# Altium footprint library USB3.2_Hub_4Port.PcbLib: 34 footprints (part 2 of 3)
Each footprint in its own frame and in the unit in brackets; x right, y up, seen from the top. Pads: shape width x height; smd on the part's side, far side on the other; paste and mask are expansions set on the pad; w line width, h text height; cw(c..) or ccw(c..) is an arc to the next point about the centre after c.
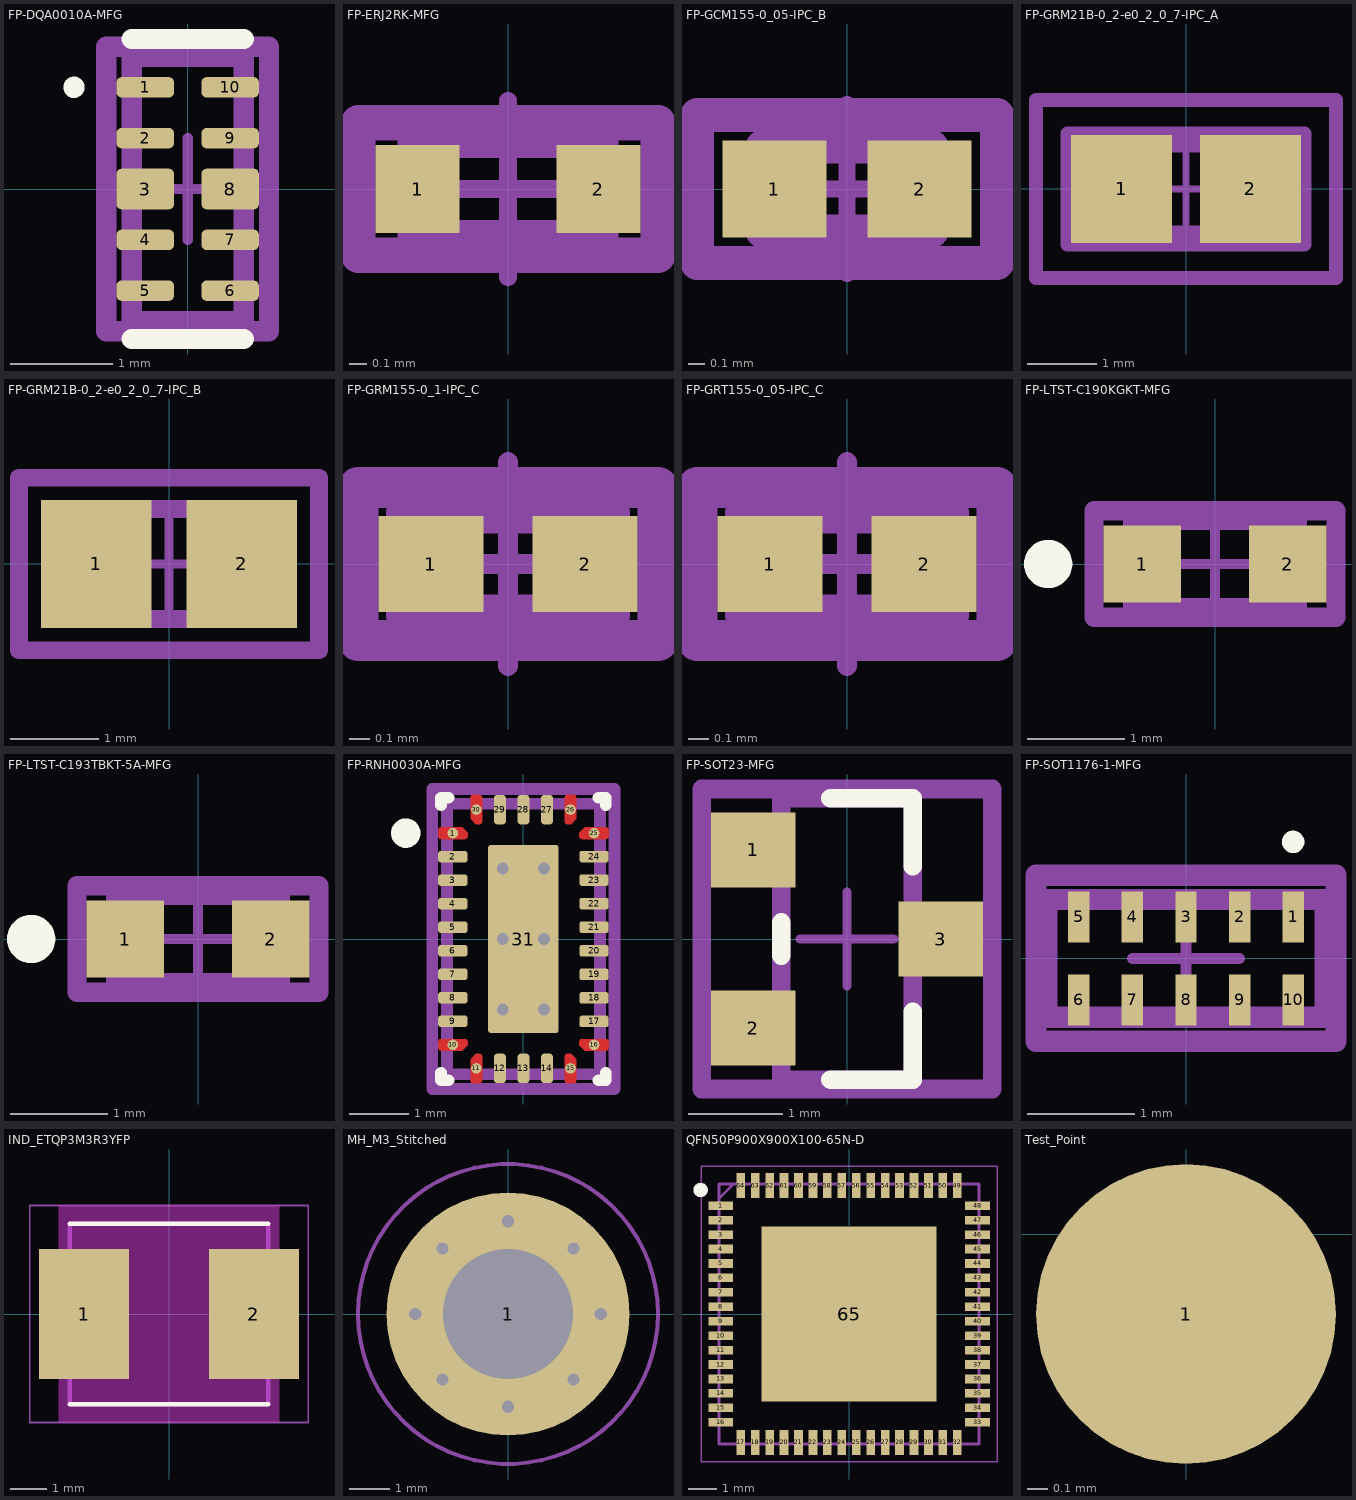
[diagram p1: the footprints below, top view; thin cyan lines are the x and y axes]

## FP-DQA0010A-MFG [mm]
pads (10):
  rrect50% 0.565x0.2 smd paste+0 mask+0: 1(-0.417,1) 2(-0.417,0.5) 4(-0.417,-0.5) 5(-0.417,-1) 6(0.417,-1) 7(0.417,-0.5) 9(0.417,0.5) 10(0.417,1)
  rrect25% 0.565x0.4 smd paste-1000 mask+0: 3(-0.417,0) 8(0.417,0)
Top Overlay:
  circle w0.11: c-1.117,1 r0.05
  lines w0.2: -0.55,-1.475 0.55,-1.475 ; -0.55,1.475 0.55,1.475
Top Paste:
  region: -0.65,-0.18 -0.66,-0.18 -0.678,-0.172 -0.692,-0.158 -0.7,-0.14 -0.7,-0.13 -0.7,0.13 -0.7,0.14 -0.692,0.158 -0.678,0.172 -0.66,0.18 -0.65,0.18 -0.185,0.18 -0.175,0.18 -0.157,0.172 -0.143,0.158 -0.135,0.14 -0.135,0.13 -0.135,-0.13 -0.135,-0.14 -0.143,-0.158 -0.157,-0.172 -0.175,-0.18 -0.185,-0.18
  region: 0.7,0.13 0.7,-0.13 0.7,-0.14 0.692,-0.158 0.678,-0.172 0.66,-0.18 0.65,-0.18 0.185,-0.18 0.175,-0.18 0.157,-0.172 0.143,-0.158 0.135,-0.14 0.135,-0.13 0.135,0.13 0.135,0.14 0.143,0.158 0.157,0.172 0.175,0.18 0.185,0.18 0.65,0.18 0.66,0.18 0.678,0.172 0.692,0.158 0.7,0.14
Top Assembly:
  lines w0.2: -0.8,-1.4 0.8,-1.4 0.8,1.4 -0.8,1.4 -0.8,-1.4
  text ".Designator" at 0,0.188 h1
Top 3D Body:
  lines w0.2: -0.55,-1.3 0.55,-1.3 0.55,1.3 -0.55,1.3 -0.55,-1.3
Top Courtyard:
  lines w0.2: -0.8,-1.4 0.8,-1.4 0.8,1.4 -0.8,1.4 -0.8,-1.4
Top Component Center:
  lines w0.1: -0.5,0 0.5,0 ; 0,-0.5 0,0.5
3D body "Diode_Texas_Instruments_ESD204DQAR_eec.STEP": height 0.25, standoff 0, extent -0.8,-1.4 0.8,1.4

## FP-ERJ2RK-MFG [mm]
pads (2):
  rect 0.475x0.5 smd paste+0 mask+0: 1(-0.513,0) 2(0.513,0)
Top Assembly:
  lines w0.2: -0.85,-0.375 -0.85,0.375 0.85,0.375 0.85,-0.375 -0.85,-0.375
  text ".Designator" at 0,0.188 h1
Top 3D Body:
  lines w0.2: -0.525,-0.275 -0.525,0.275 0.525,0.275 0.525,-0.275 -0.525,-0.275
Top Courtyard:
  lines w0.2: -0.85,-0.375 -0.85,0.375 0.85,0.375 0.85,-0.375 -0.85,-0.375
Top Component Center:
  lines w0.1: -0.5,0 0.5,0 ; 0,-0.5 0,0.5
3D body "Res_Panasonic_ERJ-2RKF1802X_eec.STEP": height 0.4, standoff 0, extent -0.499,-0.25 0.501,0.25

## FP-GCM155-0_05-IPC_B [mm]
pads (2):
  rect 0.615x0.572 smd paste+0 mask+0: 1(-0.429,0) 2(0.429,0)
Top Assembly:
  lines w0.2: -0.886,-0.436 -0.886,0.436 0.886,0.436 0.886,-0.436 -0.886,-0.436
  text ".Designator" at 0,0.188 h1
Top 3D Body:
  lines w0.2: -0.5,-0.25 -0.5,0.25 0.5,0.25 0.5,-0.25 -0.5,-0.25
Top Courtyard:
  lines w0.2: -0.886,-0.436 -0.886,0.436 0.886,0.436 0.886,-0.436 -0.886,-0.436
Top Component Center:
  lines w0.1: -0.5,0 0.5,0 ; 0,-0.5 0,0.5
3D body "Cap_Murata_GCM155R71H271KA37D_eec.STEP": height 0.55, standoff 0, extent -0.5,-0.25 0.5,0.25

## FP-GRM21B-0_2-e0_2_0_7-IPC_A [mm]
pads (2):
  rect 1.455x1.556 smd paste+0 mask+0: 1(-0.926,0) 2(0.926,0)
Top Assembly:
  lines w0.2: -2.153,-1.278 2.153,-1.278 2.153,1.278 -2.153,1.278 -2.153,-1.278
  text ".Designator" at 0,0.188 h1
Top 3D Body:
  lines w0.2: -1,-0.625 1,-0.625 1,0.625 -1,0.625 -1,-0.625
Top Courtyard:
  lines w0.2: -1.7,-0.8 1.7,-0.8 1.7,0.8 -1.7,0.8 -1.7,-0.8
Top Component Center:
  lines w0.1: -0.5,0 0.5,0 ; 0,-0.5 0,0.5
3D body "Cap_Murata_GRM21BC71C106KE11L_eec.STEP": height 1.45, standoff 0, extent -1,-0.625 1,0.625

## FP-GRM21B-0_2-e0_2_0_7-IPC_B [mm]
pads (2):
  rect 1.255x1.456 smd paste+0 mask+0: 1(-0.826,0) 2(0.826,0)
Top Assembly:
  lines w0.2: -1.703,-0.978 -1.703,0.978 1.703,0.978 1.703,-0.978 -1.703,-0.978
  text ".Designator" at 0,0.188 h1
Top 3D Body:
  lines w0.2: -1,-0.625 -1,0.625 1,0.625 1,-0.625 -1,-0.625
Top Courtyard:
  lines w0.2: -1.703,-0.978 -1.703,0.978 1.703,0.978 1.703,-0.978 -1.703,-0.978
Top Component Center:
  lines w0.1: -0.5,0 0.5,0 ; 0,-0.5 0,0.5
3D body "Cap_Murata_GRM21BC71C106KE11L_eec.STEP": height 1.45, standoff 0, extent -1,-0.625 1,0.625

## FP-GRM155-0_1-IPC_C [mm]
pads (2):
  rect 0.515x0.472 smd paste+0 mask+0: 1(-0.379,0) 2(0.379,0)
Top Assembly:
  lines w0.2: -0.736,-0.375 0.736,-0.375 0.736,0.375 -0.736,0.375 -0.736,-0.375
  text ".Designator" at 0,0.188 h1
Top 3D Body:
  lines w0.2: -0.5,-0.25 0.5,-0.25 0.5,0.25 -0.5,0.25 -0.5,-0.25
Top Courtyard:
  lines w0.2: -0.736,-0.375 0.736,-0.375 0.736,0.375 -0.736,0.375 -0.736,-0.375
Top Component Center:
  lines w0.1: -0.5,0 0.5,0 ; 0,-0.5 0,0.5
3D body "Cap_Murata_GRM155C81E105KE11D_eec.STEP": height 0.6, standoff 0, extent -0.5,-0.25 0.5,0.25

## FP-GRT155-0_05-IPC_C [mm]
pads (2):
  rect 0.515x0.472 smd paste+0 mask+0: 1(-0.379,0) 2(0.379,0)
Top Assembly:
  lines w0.2: -0.736,-0.375 0.736,-0.375 0.736,0.375 -0.736,0.375 -0.736,-0.375
  text ".Designator" at 0,0.188 h1
Top 3D Body:
  lines w0.2: -0.5,-0.25 0.5,-0.25 0.5,0.25 -0.5,0.25 -0.5,-0.25
Top Courtyard:
  lines w0.2: -0.736,-0.375 0.736,-0.375 0.736,0.375 -0.736,0.375 -0.736,-0.375
Top Component Center:
  lines w0.1: -0.5,0 0.5,0 ; 0,-0.5 0,0.5
3D body "Cap_Murata_GRT155C80G225KE13J_eec.STEP": height 0.55, standoff 0, extent -0.5,-0.25 0.5,0.25

## FP-LTST-C190KGKT-MFG [mm]
pads (2):
  rect 0.8x0.8 smd paste+0 mask+0: 1(-0.75,0) 2(0.75,0)
Top Overlay:
  circle w0.25: c-1.725,0 r0.125
Top Assembly:
  lines w0.2: -1.25,-0.55 1.25,-0.55 1.25,0.55 -1.25,0.55 -1.25,-0.55
  text ".Designator" at 0,-0.001 h1
Top 3D Body:
  lines w0.2: -0.85,-0.45 0.85,-0.45 0.85,0.45 -0.85,0.45 -0.85,-0.45
Top Courtyard:
  lines w0.2: -1.25,-0.55 1.25,-0.55 1.25,0.55 -1.25,0.55 -1.25,-0.55
Top Component Center:
  lines w0.1: -0.5,0 0.5,0 ; 0,-0.5 0,0.5
3D body "Diode_Lite-On_LTST-C190KGKT_eec.STEP": height 0.25, standoff 0, extent -1.25,-0.55 1.25,0.55

## FP-LTST-C193TBKT-5A-MFG [mm]
pads (2):
  rect 0.8x0.8 smd paste+0 mask+0: 1(-0.75,0) 2(0.75,0)
Top Overlay:
  circle w0.25: c-1.725,0 r0.125
Top Assembly:
  lines w0.2: -1.25,-0.55 1.25,-0.55 1.25,0.55 -1.25,0.55 -1.25,-0.55
  text ".Designator" at 0,-0.001 h1
Top 3D Body:
  lines w0.2: -0.85,-0.45 0.85,-0.45 0.85,0.45 -0.85,0.45 -0.85,-0.45
Top Courtyard:
  lines w0.2: -1.25,-0.55 1.25,-0.55 1.25,0.55 -1.25,0.55 -1.25,-0.55
Top Component Center:
  lines w0.1: -0.5,0 0.5,0 ; 0,-0.5 0,0.5
3D body "Diode_Lite-On_LTST-C193TBKT-5A_eec.STEP": height 0.25, standoff 0, extent -1.25,-0.55 1.25,0.55

## FP-RNH0030A-MFG [mm]
pads (31):
  round 0.18 smd paste+0 mask+0: 1(-1.2,1.8) 10(-1.2,-1.8) 11(-0.8,-2.2) 15(0.8,-2.2) 16(1.2,-1.8) 25(1.2,1.8) 26(0.8,2.2) 30(-0.8,2.2)
  rrect50% 0.5x0.2 smd paste+0 mask+0: 2(-1.2,1.4) 3(-1.2,1) 4(-1.2,0.6) 5(-1.2,0.2) 6(-1.2,-0.2) 7(-1.2,-0.6) 8(-1.2,-1) 9(-1.2,-1.4) 17(1.2,-1.4) 18(1.2,-1) 19(1.2,-0.6) 20(1.2,-0.2) 21(1.2,0.2) 22(1.2,0.6) 23(1.2,1) 24(1.2,1.4)
  rrect50% 0.2x0.5 smd paste+0 mask+0: 12(-0.4,-2.2) 13(0,-2.2) 14(0.4,-2.2) 27(0.4,2.2) 28(0,2.2) 29(-0.4,2.2)
  rrect8% 1.2x3.2 smd paste-1000 mask+0: 31(0,0)
via 0.35,1.2 diameter 0.5 hole 0.2
via 0.35,0 diameter 0.5 hole 0.2
via -0.35,0 diameter 0.5 hole 0.2
via -0.35,1.2 diameter 0.5 hole 0.2
via -0.35,-1.2 diameter 0.5 hole 0.2
via 0.35,-1.2 diameter 0.5 hole 0.2
Top Layer:
  region: -0.9,2.4 -0.9,2.04 -0.81,1.95 -0.75,1.95 -0.74,1.95 -0.722,1.958 -0.708,1.972 -0.7,1.99 -0.7,2 -0.7,2.4 -0.7,2.41 -0.708,2.428 -0.722,2.442 -0.74,2.45 -0.75,2.45 -0.85,2.45 -0.86,2.45 -0.878,2.442 -0.892,2.428 -0.9,2.41
  region: 0.9,2.4 0.9,2.04 0.81,1.95 0.75,1.95 0.74,1.95 0.722,1.958 0.708,1.972 0.7,1.99 0.7,2 0.7,2.4 0.7,2.41 0.708,2.428 0.722,2.442 0.74,2.45 0.75,2.45 0.85,2.45 0.86,2.45 0.878,2.442 0.892,2.428 0.9,2.41
  region: -0.9,-2.4 -0.9,-2.04 -0.81,-1.95 -0.75,-1.95 -0.74,-1.95 -0.722,-1.958 -0.708,-1.972 -0.7,-1.99 -0.7,-2 -0.7,-2.4 -0.7,-2.41 -0.708,-2.428 -0.722,-2.442 -0.74,-2.45 -0.75,-2.45 -0.85,-2.45 -0.86,-2.45 -0.878,-2.442 -0.892,-2.428 -0.9,-2.41
  region: 0.9,-2.4 0.9,-2.04 0.81,-1.95 0.75,-1.95 0.74,-1.95 0.722,-1.958 0.708,-1.972 0.7,-1.99 0.7,-2 0.7,-2.4 0.7,-2.41 0.708,-2.428 0.722,-2.442 0.74,-2.45 0.75,-2.45 0.85,-2.45 0.86,-2.45 0.878,-2.442 0.892,-2.428 0.9,-2.41
  region: -1.4,1.9 -1.04,1.9 -0.95,1.81 -0.95,1.75 -0.95,1.74 -0.958,1.722 -0.972,1.708 -0.99,1.7 -1,1.7 -1.4,1.7 -1.41,1.7 -1.428,1.708 -1.442,1.722 -1.45,1.74 -1.45,1.75 -1.45,1.85 -1.45,1.86 -1.442,1.878 -1.428,1.892 -1.41,1.9
  region: 1.4,1.9 1.04,1.9 0.95,1.81 0.95,1.75 0.95,1.74 0.958,1.722 0.972,1.708 0.99,1.7 1,1.7 1.4,1.7 1.41,1.7 1.428,1.708 1.442,1.722 1.45,1.74 1.45,1.75 1.45,1.85 1.45,1.86 1.442,1.878 1.428,1.892 1.41,1.9
  region: 1.4,-1.9 1.04,-1.9 0.95,-1.81 0.95,-1.75 0.95,-1.74 0.958,-1.722 0.972,-1.708 0.99,-1.7 1,-1.7 1.4,-1.7 1.41,-1.7 1.428,-1.708 1.442,-1.722 1.45,-1.74 1.45,-1.75 1.45,-1.85 1.45,-1.86 1.442,-1.878 1.428,-1.892 1.41,-1.9
  region: -1.4,-1.9 -1.04,-1.9 -0.95,-1.81 -0.95,-1.75 -0.95,-1.74 -0.958,-1.722 -0.972,-1.708 -0.99,-1.7 -1,-1.7 -1.4,-1.7 -1.41,-1.7 -1.428,-1.708 -1.442,-1.722 -1.45,-1.74 -1.45,-1.75 -1.45,-1.85 -1.45,-1.86 -1.442,-1.878 -1.428,-1.892 -1.41,-1.9
Top Overlay:
  circle w0.25: c-2,1.8 r0.125
  lines w0.2: -1.4,-2.275 -1.4,-2.4 -1.275,-2.4 ; -1.4,2.275 -1.4,2.4 -1.275,2.4 ; 1.275,-2.4 1.4,-2.4 1.4,-2.275 ; 1.275,2.4 1.4,2.4 1.4,2.275
Top Paste:
  region: 0.515,0.105 -0.515,0.105 -0.525,0.105 -0.543,0.113 -0.557,0.127 -0.565,0.145 -0.565,0.155 -0.565,1.445 -0.565,1.455 -0.557,1.473 -0.543,1.487 -0.525,1.495 -0.515,1.495 0.515,1.495 0.525,1.495 0.543,1.487 0.557,1.473 0.565,1.455 0.565,1.445 0.565,0.155 0.565,0.145 0.557,0.127 0.543,0.113 0.525,0.105
  region: -0.515,-1.495 -0.525,-1.495 -0.543,-1.487 -0.557,-1.473 -0.565,-1.455 -0.565,-1.445 -0.565,-0.155 -0.565,-0.145 -0.557,-0.127 -0.543,-0.113 -0.525,-0.105 -0.515,-0.105 0.515,-0.105 0.525,-0.105 0.543,-0.113 0.557,-0.127 0.565,-0.145 0.565,-0.155 0.565,-1.445 0.565,-1.455 0.557,-1.473 0.543,-1.487 0.525,-1.495 0.515,-1.495
Top Assembly:
  lines w0.2: -1.55,-2.55 1.55,-2.55 1.55,2.55 -1.55,2.55 -1.55,-2.55
  text ".Designator" at 0,0.188 h1
Top 3D Body:
  lines w0.2: -1.3,-2.3 1.3,-2.3 1.3,2.3 -1.3,2.3 -1.3,-2.3
Top Courtyard:
  lines w0.2: -1.55,-2.55 1.55,-2.55 1.55,2.55 -1.55,2.55 -1.55,-2.55
Top Component Center:
  lines w0.1: -0.5,0 0.5,0 ; 0,-0.5 0,0.5
3D body "IC_Texas_Instruments_HD3SS3220IRNHT_eec.STEP": height 0.25, standoff 0, extent -1.55,-2.55 1.55,2.55

## FP-SOT23-MFG [mm]
pads (3):
  rect 0.9x0.8 smd paste+0 mask+0: 1(-1,0.95) 2(-1,-0.95) 3(1,0)
Top Overlay:
  lines w0.2: -0.7,-0.175 -0.7,0.175 ; -0.175,-1.5 0.7,-1.5 0.7,-0.775 ; -0.175,1.5 0.7,1.5 0.7,0.775
Top Assembly:
  lines w0.2: -1.55,-1.6 -1.55,1.6 1.55,1.6 1.55,-1.6 -1.55,-1.6
  text ".Designator" at 0,-0.001 h1
Top 3D Body:
  lines w0.2: -0.7,-1.5 -0.7,1.5 0.7,1.5 0.7,-1.5 -0.7,-1.5
Top Courtyard:
  lines w0.2: -1.55,-1.6 -1.55,1.6 1.55,1.6 1.55,-1.6 -1.55,-1.6
Top Component Center:
  lines w0.1: -0.5,0 0.5,0 ; 0,-0.5 0,0.5
3D body "Trans_Diodes_Inc_DMG2305UX-13_eec.STEP": height 0.25, standoff 0, extent -1.55,-1.6 1.55,1.6

## FP-SOT1176-1-MFG [mm]
pads (10):
  rect 0.2x0.475 smd paste+0 mask-1000: 1(1,0.387) 2(0.5,0.387) 3(0,0.387) 4(-0.5,0.387) 5(-1,0.387) 6(-1,-0.387) 7(-0.5,-0.387) 8(0,-0.387) 9(0.5,-0.387) 10(1,-0.387)
Top Overlay:
  circle w0.11: c1,1.087 r0.05
Top Solder:
  rectangle: 0.85,0.1 1.15,0.675
  rectangle: 0.35,0.1 0.65,0.675
  rectangle: -0.15,0.1 0.15,0.675
  rectangle: -0.65,0.1 -0.35,0.675
  rectangle: -1.15,0.1 -0.85,0.675
  rectangle: -1.15,-0.675 -0.85,-0.1
  rectangle: -0.65,-0.675 -0.35,-0.1
  rectangle: -0.15,-0.675 0.15,-0.1
  rectangle: 0.35,-0.675 0.65,-0.1
  rectangle: 0.85,-0.675 1.15,-0.1
Top Assembly:
  lines w0.2: -1.4,-0.775 1.4,-0.775 1.4,0.775 -1.4,0.775 -1.4,-0.775
  text ".Designator" at 0,0.188 h1
Top 3D Body:
  lines w0.2: -1.3,-0.55 1.3,-0.55 1.3,0.55 -1.3,0.55 -1.3,-0.55
Top Courtyard:
  lines w0.2: -1.4,-0.775 1.4,-0.775 1.4,0.775 -1.4,0.775 -1.4,-0.775
Top Component Center:
  lines w0.1: -0.5,0 0.5,0 ; 0,-0.5 0,0.5
3D body "Diode_Nexperia_PUSB3FR4Z_eec.STEP": height 0.25, standoff 0, extent -1.4,-0.775 1.4,0.775

## IND_ETQP3M3R3YFP [mm]
height 3
pads (2):
  rect 2.5x3.6 smd: 1(-2.35,0) 2(2.35,0)
Top Overlay:
  lines w0.127: -2.75,-2.5 2.75,-2.5 ; -2.75,2.5 2.75,2.5
Keep-Out Layer:
  region: 3.05,1.8 1.1,1.8 1.1,-1.8 3.05,-1.8 3.05,-3 -3.05,-3 -3.05,-1.8 -1.1,-1.8 -1.1,1.8 -3.05,1.8 -3.05,3 3.05,3
Top 3D Body:
  lines w0.127: -2.75,-2.5 -2.75,2.5 2.75,2.5 2.75,-2.5 -2.75,-2.5
Top Courtyard:
  lines w0.05: -3.85,-3 -3.85,3 3.85,3 3.85,-3 -3.85,-3
3D body "step_temp.STEP": height 3, standoff 0, extent -2.75,-2.5 2.75,2.5

## MH_M3_Stitched [mm]
pads (1):
  round 6 hole 3.2 mask+0: 1(0,0)
via -1.616,-1.616 diameter 0.6 hole 0.3
via 0,-2.286 diameter 0.6 hole 0.3
via -2.286,0 diameter 0.6 hole 0.3
via -1.616,1.616 diameter 0.6 hole 0.3
via 1.616,-1.616 diameter 0.6 hole 0.3
via 2.286,0 diameter 0.6 hole 0.3
via 1.616,1.616 diameter 0.6 hole 0.3
via 0,2.286 diameter 0.6 hole 0.3
Mechanical 1:
  circle w0.1: c0,0 r3.7

## QFN50P900X900X100-65N-D [mm]
pads (65):
  rect 0.85x0.3 smd: 1(-4.45,3.75) 2(-4.45,3.25) 3(-4.45,2.75) 4(-4.45,2.25) 5(-4.45,1.75) 6(-4.45,1.25) 7(-4.45,0.75) 8(-4.45,0.25) 9(-4.45,-0.25) 10(-4.45,-0.75) 11(-4.45,-1.25) 12(-4.45,-1.75) 13(-4.45,-2.25) 14(-4.45,-2.75) 15(-4.45,-3.25) 16(-4.45,-3.75) 33(4.45,-3.75) 34(4.45,-3.25) 35(4.45,-2.75) 36(4.45,-2.25) 37(4.45,-1.75) 38(4.45,-1.25) 39(4.45,-0.75) 40(4.45,-0.25) 41(4.45,0.25) 42(4.45,0.75) 43(4.45,1.25) 44(4.45,1.75) 45(4.45,2.25) 46(4.45,2.75) 47(4.45,3.25) 48(4.45,3.75)
  rect 0.3x0.85 smd: 17(-3.75,-4.45) 18(-3.25,-4.45) 19(-2.75,-4.45) 20(-2.25,-4.45) 21(-1.75,-4.45) 22(-1.25,-4.45) 23(-0.75,-4.45) 24(-0.25,-4.45) 25(0.25,-4.45) 26(0.75,-4.45) 27(1.25,-4.45) 28(1.75,-4.45) 29(2.25,-4.45) 30(2.75,-4.45) 31(3.25,-4.45) 32(3.75,-4.45) 49(3.75,4.45) 50(3.25,4.45) 51(2.75,4.45) 52(2.25,4.45) 53(1.75,4.45) 54(1.25,4.45) 55(0.75,4.45) 56(0.25,4.45) 57(-0.25,4.45) 58(-0.75,4.45) 59(-1.25,4.45) 60(-1.75,4.45) 61(-2.25,4.45) 62(-2.75,4.45) 63(-3.25,4.45) 64(-3.75,4.45)
  rect 6.05x6.05 smd: 65(0,0)
Top Overlay:
  circle w0.25: c-5.14,4.294 r0.125
Top Courtyard:
  lines w0.1: -4.5,4 -4,4.5 ; -4.5,-4.5 4.5,-4.5 4.5,4.5 -4.5,4.5 -4.5,-4.5
Bottom Assembly:
  lines w0.05: -5.125,-5.125 5.125,-5.125 5.125,5.125 -5.125,5.125 -5.125,-5.125
3D body "TUSB8044ARGCR.stp": height 0.97, standoff -0.03, extent -4.5,-4.5 4.5,4.5

## Test_Point [mm]
pads (1):
  round 1.5 smd mask+0.05: 1(0,-0.4)